# Altium schematic symbol library Transistor NPN IRLML6246TRPBF.Schlib: 1 symbol
Pins are listed as number, name and electrical type; pins without a type are passive.

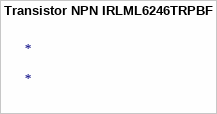
[diagram p0: symbol Transistor NPN IRLML6246TRPBF]

## Transistor NPN IRLML6246TRPBF
designator *